# EAGLE library part MC9S08JM60-64 (library freescale-hcs08)
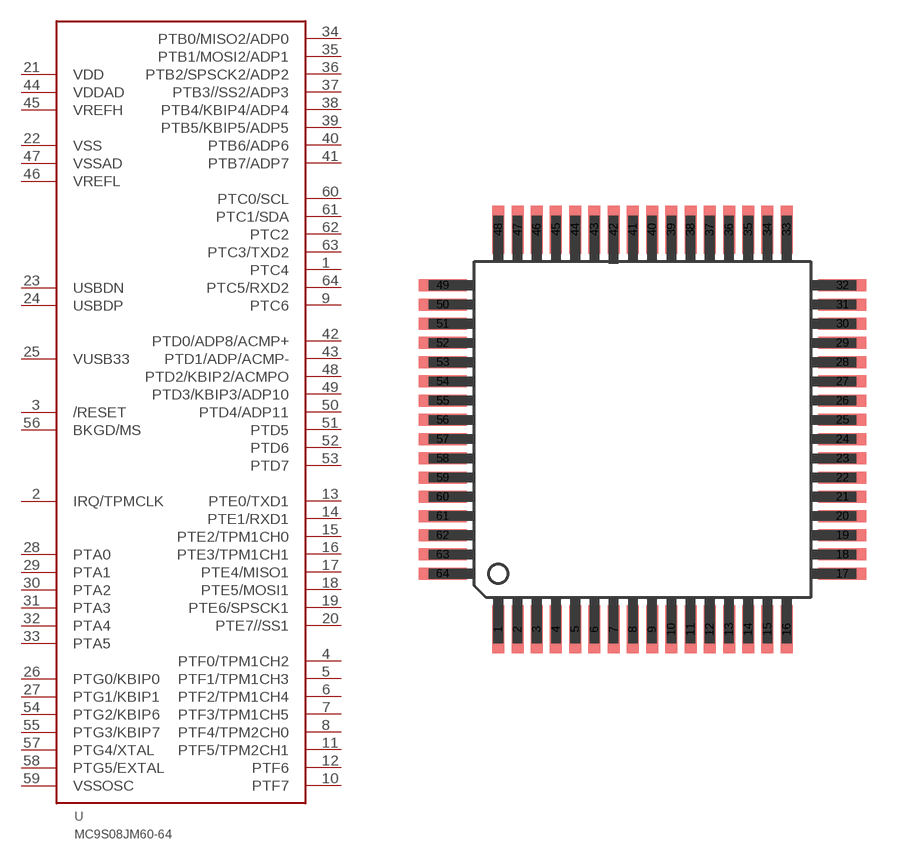
[diagram p0: symbol with the pads of QFP64; footprint QFP64]

Designator prefix -

## MC9S08JM60-64CQH  [QFP64]
1  PTC4
2  IRQ/TPMCLK
3  /RESET
4  PTF0/TPM1CH2
5  PTF1/TPM1CH3
6  PTF2/TPM1CH4
7  PTF3/TPM1CH5
8  PTF4/TPM2CH0
9  PTC6
10  PTF7
11  PTF5/TPM2CH1
12  PTF6
13  PTE0/TXD1
14  PTE1/RXD1
15  PTE2/TPM1CH0
16  PTE3/TPM1CH1
17  PTE4/MISO1
18  PTE5/MOSI1
19  PTE6/SPSCK1
20  PTE7//SS1
21  VDD
22  VSS
23  USBDN
24  USBDP
25  VUSB33
26  PTG0/KBIP0
27  PTG1/KBIP1
28  PTA0
29  PTA1
30  PTA2
31  PTA3
32  PTA4
33  PTA5
34  PTB0/MISO2/ADP0
35  PTB1/MOSI2/ADP1
36  PTB2/SPSCK2/ADP2
37  PTB3//SS2/ADP3
38  PTB4/KBIP4/ADP4
39  PTB5/KBIP5/ADP5
40  PTB6/ADP6
41  PTB7/ADP7
42  PTD0/ADP8/ACMP+
43  PTD1/ADP/ACMP-
44  VDDAD
45  VREFH
46  VREFL
47  VSSAD
48  PTD2/KBIP2/ACMPO
49  PTD3/KBIP3/ADP10
50  PTD4/ADP11
51  PTD5
52  PTD6
53  PTD7
54  PTG2/KBIP6
55  PTG3/KBIP7
56  BKGD/MS
57  PTG4/XTAL
58  PTG5/EXTAL
59  VSSOSC
60  PTC0/SCL
61  PTC1/SDA
62  PTC2
63  PTC3/TXD2
64  PTC5/RXD2

## Footprint QFP64 (pad centres in mm)
smd 0.5 x 2: 1 -6,-8.318; 2 -5.2,-8.318; 3 -4.4,-8.318; 4 -3.6,-8.318; 5 -2.8,-8.318; 6 -2,-8.318; 7 -1.2,-8.318; 8 -0.4,-8.318; 9 0.4,-8.318; 10 1.2,-8.318; 11 2,-8.318; 12 2.8,-8.318; 13 3.6,-8.318; 14 4.4,-8.318; 15 5.2,-8.318; 16 6,-8.318; 33 6,8.318; 34 5.2,8.318; 35 4.4,8.318; 36 3.6,8.318; 37 2.8,8.318; 38 2,8.318; 39 1.2,8.318; 40 0.4,8.318; 41 -0.4,8.318; 42 -1.2,8.318; 43 -2,8.318; 44 -2.8,8.318; 45 -3.6,8.318; 46 -4.4,8.318; 47 -5.2,8.318; 48 -6,8.318
smd 2 x 0.5: 17 8.318,-6; 18 8.318,-5.2; 19 8.318,-4.4; 20 8.318,-3.6; 21 8.318,-2.8; 22 8.318,-2; 23 8.318,-1.2; 24 8.318,-0.4; 25 8.318,0.4; 26 8.318,1.2; 27 8.318,2; 28 8.318,2.8; 29 8.318,3.6; 30 8.318,4.4; 31 8.318,5.2; 32 8.318,6; 49 -8.318,6; 50 -8.318,5.2; 51 -8.318,4.4; 52 -8.318,3.6; 53 -8.318,2.8; 54 -8.318,2; 55 -8.318,1.2; 56 -8.318,0.4; 57 -8.318,-0.4; 58 -8.318,-1.2; 59 -8.318,-2; 60 -8.318,-2.8; 61 -8.318,-3.6; 62 -8.318,-4.4; 63 -8.318,-5.2; 64 -8.318,-6